# Altium footprint library 51K.PcbLib: 1 footprints
Each footprint in its own frame and in the unit in brackets; x right, y up, seen from the top. Pads: shape width x height; smd on the part's side, far side on the other; paste and mask are expansions set on the pad; w line width, h text height; cw(c..) or ccw(c..) is an arc to the next point about the centre after c.
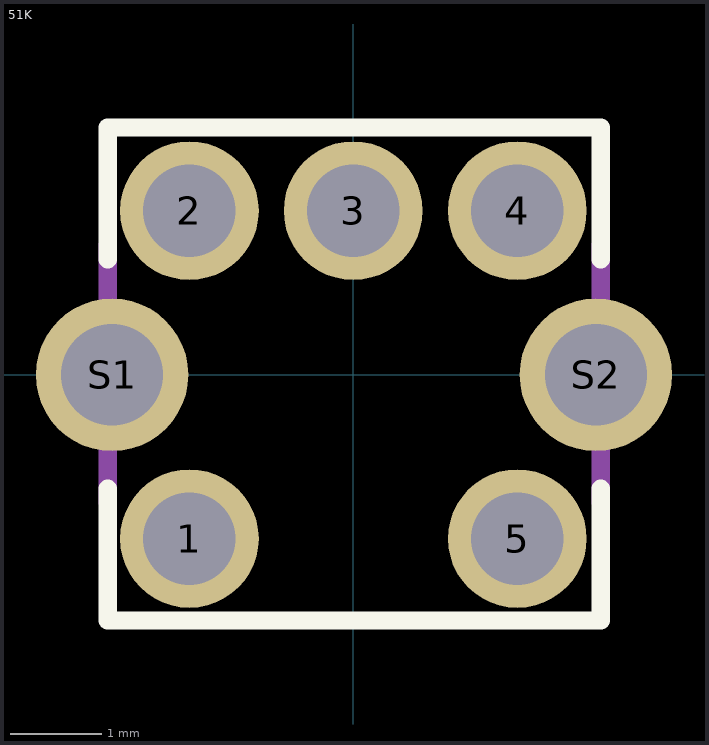
[diagram p0: the footprint, top view; thin cyan lines are the x and y axes]

## 51K [mil]
pads (7):
  round 60 hole 40: 1(-70.87,-70.87) 2(-70.87,71) 3(0,71) 4(71,71) 5(71,-70.87)
  round 66 hole 44: S1(-104.33,0) S2(105,0)
Top Overlay:
  lines w8: -106.3,-49.21 -106.3,-106.3 107,-106.3 107,-49.21 ; -106.3,50 -106.3,107 107,107 107,50
Mechanical 16:
  lines w8: -106.3,-55.12 -106.3,56 ; 107,-55.12 107,56